# Altium integrated library JST GH Connectors.IntLib: 14 symbols
Pins are listed as number, name and electrical type; pins without a type are passive.

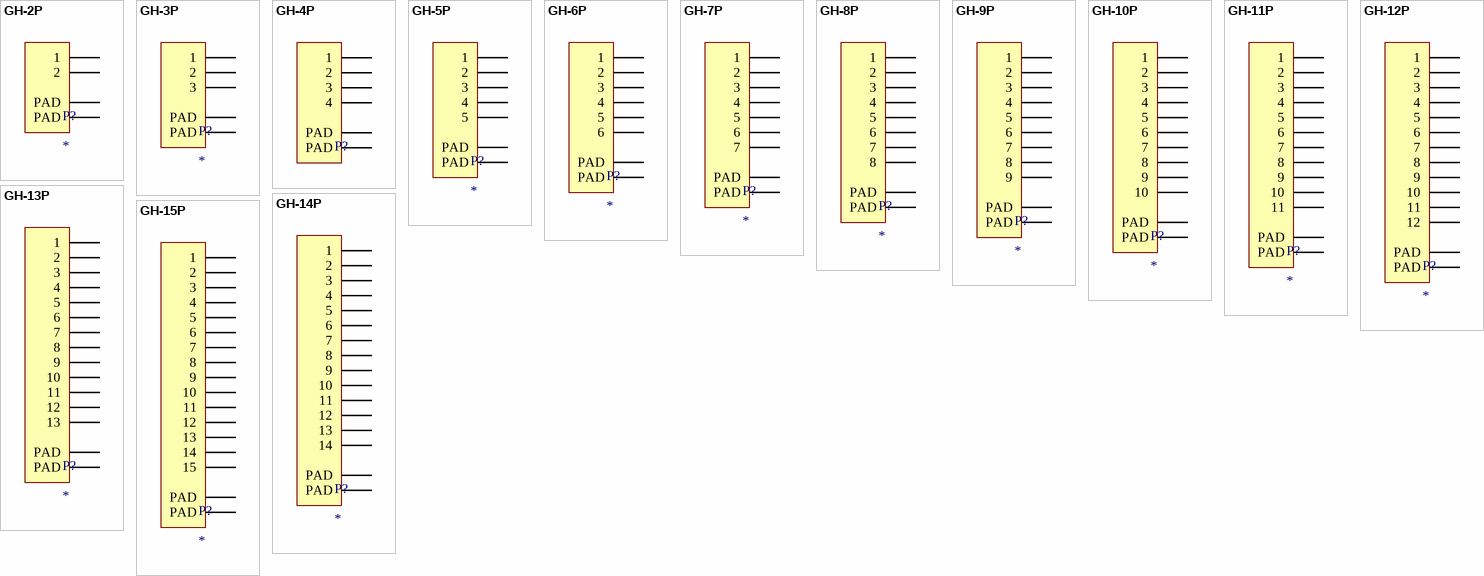
[diagram p0: symbols GH-2P to GH-15P]

## GH-2P
designator P?
1.0A, 50V, 1.25mm pitch connector
footprint SM02B-GHS-TB
footprint BM02B-GHS-TBT
pins: 0 PAD, 1, 2, 100 PAD

## GH-3P
designator P?
1.0A, 50V, 1.25mm pitch connector
footprint SM03B-GHS-TB
footprint BM03B-GHS-TBT
pins: 0 PAD, 1, 2, 3, 100 PAD

## GH-4P
designator P?  (value not drawn)
1.0A, 50V, 1.25mm pitch connector
footprint SM04B-GHS-TB
footprint BM04B-GHS-TBT
pins: 0 PAD, 1, 2, 3, 4, 100 PAD

## GH-5P
designator P?
1.0A, 50V, 1.25mm pitch connector
footprint SM05B-GHS-TB
footprint BM05B-GHS-TBT
pins: 0 PAD, 1, 2, 3, 4, 5, 100 PAD

## GH-6P
designator P?
1.0A, 50V, 1.25mm pitch connector
footprint SM06B-GHS-TB
footprint BM06B-GHS-TBT
pins: 0 PAD, 1, 2, 3, 4, 5, 6, 100 PAD

## GH-7P
designator P?
1.0A, 50V, 1.25mm pitch connector
footprint SM07B-GHS-TB
footprint BM07B-GHS-TBT
pins: 0 PAD, 1, 2, 3, 4, 5, 6, 7, 100 PAD

## GH-8P
designator P?
1.0A, 50V, 1.25mm pitch connector
footprint SM08B-GHS-TB
footprint BM08B-GHS-TBT
pins: 0 PAD, 1, 2, 3, 4, 5, 6, 7, 8, 100 PAD

## GH-9P
designator P?
1.0A, 50V, 1.25mm pitch connector
footprint SM09B-GHS-TB
footprint BM09B-GHS-TBT
pins: 0 PAD, 1, 2, 3, 4, 5, 6, 7, 8, 9, 100 PAD

## GH-10P
designator P?
1.0A, 50V, 1.25mm pitch connector
footprint SM10B-GHS-TB
footprint BM10B-GHS-TBT
pins: 0 PAD, 1, 2, 3, 4, 5, 6, 7, 8, 9, 10, 100 PAD

## GH-11P
designator P?
1.0A, 50V, 1.25mm pitch connector
footprint SM11B-GHS-TB
footprint BM11B-GHS-TBT
pins: 0 PAD, 1, 2, 3, 4, 5, 6, 7, 8, 9, 10, 11, 100 PAD

## GH-12P
designator P?
1.0A, 50V, 1.25mm pitch connector
footprint SM12B-GHS-TB
footprint BM12B-GHS-TBT
pins: 0 PAD, 1, 2, 3, 4, 5, 6, 7, 8, 9, 10, 11, 12, 100 PAD

## GH-13P
designator P?
1.0A, 50V, 1.25mm pitch connector
footprint SM13B-GHS-TB
footprint BM13B-GHS-TBT
pins: 0 PAD, 1, 2, 3, 4, 5, 6, 7, 8, 9, 10, 11, 12, 13, 100 PAD

## GH-14P
designator P?
1.0A, 50V, 1.25mm pitch connector
footprint SM14B-GHS-TB
footprint BM14B-GHS-TBT
pins: 0 PAD, 1, 2, 3, 4, 5, 6, 7, 8, 9, 10, 11, 12, 13, 14, 100 PAD

## GH-15P
designator P?
1.0A, 50V, 1.25mm pitch connector
footprint SM15B-GHS-TB
footprint BM15B-GHS-TBT
pins: 0 PAD, 1, 2, 3, 4, 5, 6, 7, 8, 9, 10, 11, 12, 13, 14, 15, 100 PAD